# Altium schematic symbol library LTST-C191KGKT.SchLib: 1 symbol
Pins are listed as number, name and electrical type; pins without a type are passive.

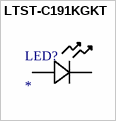
[diagram p0: symbol LTST-C191KGKT]

## LTST-C191KGKT
designator LED?
No Description Available; Mfr_Name: LITE-ON; Type: LED Indication
footprint LED_LTST-C191KGKT_LTO
pins: 1 CATHODE, 2 ANODE